# Altium footprint library sorour.PcbLib: 6 footprints
Each footprint in its own frame and in the unit in brackets; x right, y up, seen from the top. Pads: shape width x height; smd on the part's side, far side on the other; paste and mask are expansions set on the pad; w line width, h text height; cw(c..) or ccw(c..) is an arc to the next point about the centre after c.
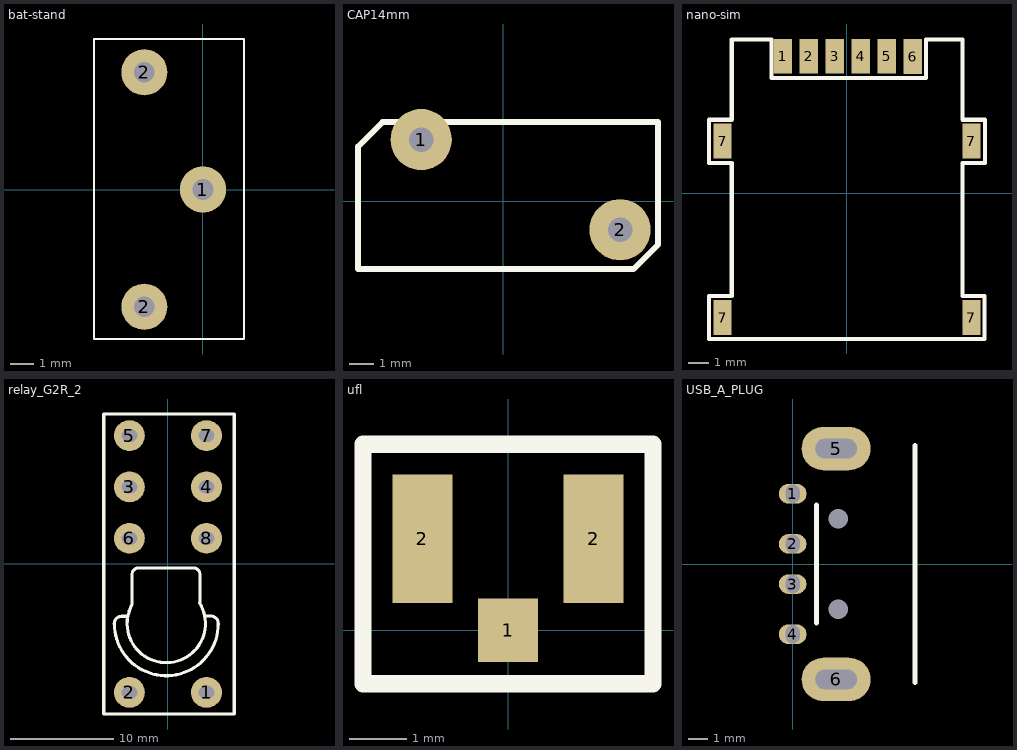
[diagram p0: the footprints below, top view; thin cyan lines are the x and y axes]

## bat-stand [mm]
pads (3):
  round 2 hole 0.9: 1(0,0) 2(-2.54,-5.08) 2(-2.54,5.08)
Top Overlay:
  lines w0.1: -4.722,-6.477 1.778,-6.477 1.778,6.523 -4.722,6.523 -4.722,-6.477

## CAP14mm [mm]
pads (2):
  round 2.5 hole 1: 1(-3.353,2.515) 2(4.768,-1.168)
Top Overlay:
  lines w0.25: -5.932,-2.771 5.318,-2.771 6.318,-1.771 6.318,3.229 -4.932,3.229 -5.932,2.229 -5.932,-2.771
3D body: height 13, standoff -2.5, extent -5.797,-1.546 6.203,2.255

## nano-sim [mm]
pads (10):
  rect 0.9x1.7 smd: 1(-3.146,6.704) 2(-1.873,6.704) 3(-0.6,6.704) 4(0.673,6.704) 5(1.946,6.704) 6(3.219,6.694) 7(-6.096,-6.096) 7(-6.096,2.554) 7(6.104,-6.096) 7(6.104,2.554)
Top Overlay:
  lines w0.2: -6.764,-7.149 -5.443,-7.149 5.149,-7.149 6.749,-7.149 6.749,-5.041 5.657,-5.041 5.657,1.487 6.775,1.487 6.775,2.274 6.775,3.595 5.657,3.595 5.657,7.532 3.879,7.532 3.879,5.652 -3.69,5.652 -3.69,7.532 -5.646,7.532 -5.646,3.595 -6.764,3.595 -6.764,1.487 -5.646,1.487 -5.646,-5.041 -6.764,-5.041 -6.764,-7.149

## relay_G2R_2 [mm]
pads (8):
  round 3 hole 1.2 slot 1.5 at 0 deg: 1(3.75,-12.5) 2(-3.75,-12.5) 3(-3.75,7.5) 4(3.75,7.5) 5(-3.75,12.5) 6(-3.75,2.5) 7(3.75,12.5) 8(3.75,2.5)
Top Overlay:
  lines w0.254: -6.25,-14.6 6.45,-14.6 ; -6.25,14.6 6.45,14.6
  lines w0.305: -6.25,-14.6 -6.25,14.6 ; -5.231,-5.82 cw(c-4.494,-5.82) -4.494,-5.083 -3.961,-5.083 ; -5.217,-5.82 ccw(c-0.162,-5.82) 4.893,-5.82 ; -3.515,-3.94 -3.501,-1.019 cw(c-2.866,-1.019) -2.866,-0.384 ; -3.494,-3.947 ccw(c-0.162,-5.794) 3.069,-3.775 ; -2.829,-0.384 2.48,-0.384 cw(c2.48,-1.019) 3.115,-1.019 3.115,-3.839 ; 3.623,-5.058 4.156,-5.058 cw(c4.156,-5.794) 4.893,-5.794 ; 6.45,-14.6 6.45,14.6
  lines w0.5: -3.041,3.054 ccw(c-3.75,2.5) -3.022,3.029 ; -3.041,8.054 ccw(c-3.75,7.5) -3.022,8.029 ; -3.041,13.054 ccw(c-3.75,12.5) -3.022,13.029 ; 4.459,3.054 ccw(c3.75,2.5) 4.478,3.029 ; 4.459,8.054 ccw(c3.75,7.5) 4.478,8.029 ; 4.459,13.054 ccw(c3.75,12.5) 4.478,13.029
3D body: height 4, standoff -25.5, extent -6.41,-14.703 6.59,14.297

## ufl [mm]
pads (3):
  rect 1.05x1.11 smd: 1(0,0)
  rect 1.05x2.25 smd: 2(-1.5,1.605) 2(1.5,1.605)
Top Overlay:
  lines w0.3: -2.54,-0.935 -2.54,3.256 2.54,3.256 2.54,-0.935 -2.54,-0.935

## USB_A_PLUG [mm]
pads (8):
  round 0 hole 1: 0(2.3,-2.29) 0(2.3,2.29)
  oval 1.4x1 hole 0.7 slot 0.92 at 90 deg: 1(0,3.56) 2(0,1.02) 3(0,-1.02) 4(0,-3.56)
  oval 3.5x2.2 hole 1 slot 2.1 at 0 deg: 5(2.2,5.85) 6(2.2,-5.85)
Top Overlay:
  lines w0.254: 1.2,-3 1.2,3 ; 6.2,-6 6.2,6